# EAGLE library part UA9637A (library IC & Transistor)
Dual Differential Line Receiver Created by: Wai Weng
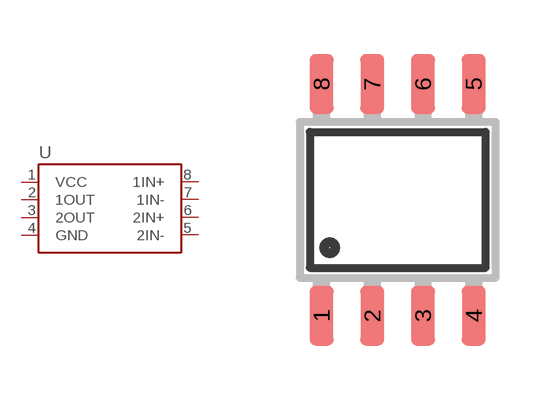
[diagram p66: symbol with the pads of SOIC-08N; footprint SOIC-08N]

Designator prefix U

## UA9637A (DESC: S Dual Differential Line Driver UA9637A SO8; MF: Texas Instruments; MPN: UA9637A)  [SOIC-08N]
1  VCC
2  1OUT
3  2OUT
4  GND
5  2IN-
6  2IN+
7  1IN-
8  1IN+

## Footprint SOIC-08N (pad centres in mm)
Small Outline Integrated Circuit (SOIC) Narrow (JEDEC) SOIC Package Size: 4.9mm x 3.9mm Lead Pitch: 1.27mm
smd 0.6 x 1.5: 1 -1.905,-2.9; 2 -0.635,-2.9; 3 0.635,-2.9; 4 1.905,-2.9; 5 1.905,2.9; 6 0.635,2.9; 7 -0.635,2.9; 8 -1.905,2.9